# EAGLE library part MK22FN1M0VLQ12 (library Board4You)
IC MCU ARM 1MB FLASH ,LQFP-144
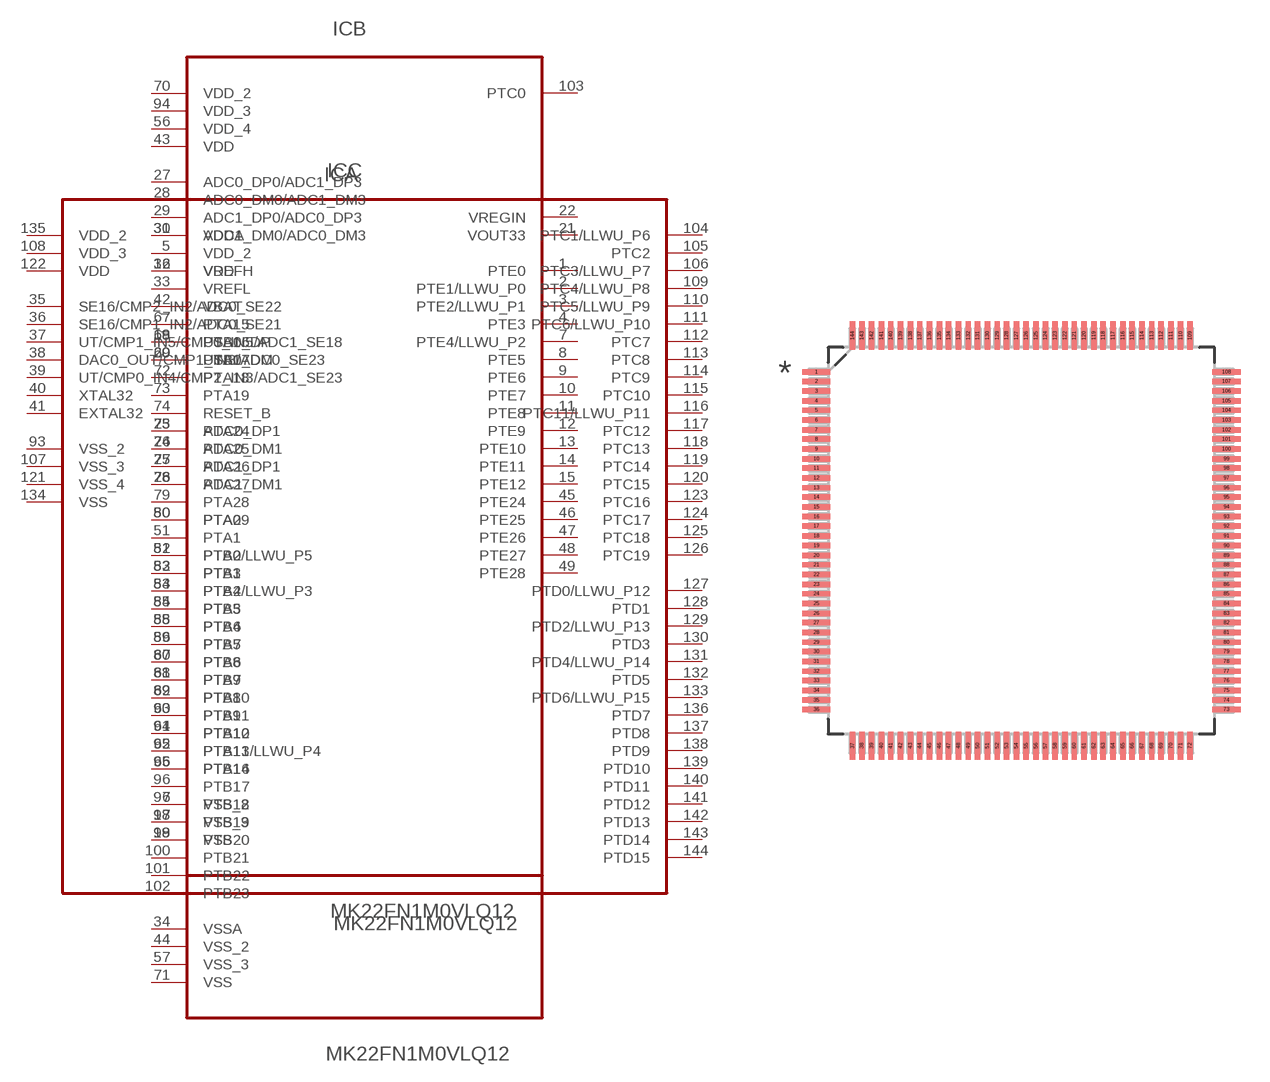
[diagram p5: symbol with the pads of QFP50P2200X2200X160-144N; footprint QFP50P2200X2200X160-144N]

Designator prefix IC; gates A=MK22FN1M0VLQ12_A B=MK22FN1M0VLQ12_B C=MK22FN1M0VLQ12_C

## MK22FN1M0VLQ12 (MPN: MK22FN1M0VLQ12; OC_FARNELL: 2360682; OC_NEWARK: 96W1243; PACKAGE: LQFP-144; SUPPLIER: FREESCALE SEMICONDUCTOR)  [QFP50P2200X2200X160-144N]
1  A:PTE0
2  A:PTE1/LLWU_P0
3  A:PTE2/LLWU_P1
4  A:PTE3
5  A:VDD_2  pwr
6  A:VSS_2  pas
7  A:PTE4/LLWU_P2
8  A:PTE5
9  A:PTE6
10  A:PTE7
11  A:PTE8
12  A:PTE9
13  A:PTE10
14  A:PTE11
15  A:PTE12
16  A:VDD  pwr
17  A:VSS_3  pas
18  A:VSS  pas
19  A:USB0_DP  pas
20  A:USB0_DM  pas
21  A:VOUT33  out
22  A:VREGIN  in
23  A:ADC0_DP1  pas
24  A:ADC0_DM1  pas
25  A:ADC1_DP1  pas
26  A:ADC1_DM1  pas
27  B:ADC0_DP0/ADC1_DP3  pas
28  B:ADC0_DM0/ADC1_DM3  pas
29  B:ADC1_DP0/ADC0_DP3  pas
30  B:ADC1_DM0/ADC0_DM3  pas
31  A:VDDA  pwr
32  B:VREFH  pas
33  B:VREFL  pas
34  B:VSSA  pas
35  C:SE16/CMP2_IN2/ADC0_SE22  pas
36  C:SE16/CMP1_IN2/ADC0_SE21  pas
37  C:UT/CMP1_IN5/CMP0_IN5/ADC1_SE18  pas
38  C:DAC0_OUT/CMP1_IN3/ADC0_SE23  pas
39  C:UT/CMP0_IN4/CMP2_IN3/ADC1_SE23  pas
40  C:XTAL32  pas
41  C:EXTAL32  pas
42  A:VBAT  pwr
43  B:VDD  pwr
44  B:VSS_2  pas
45  A:PTE24
46  A:PTE25
47  A:PTE26
48  A:PTE27
49  A:PTE28
50  A:PTA0
51  A:PTA1
52  A:PTA2
53  A:PTA3
54  A:PTA4/LLWU_P3
55  A:PTA5
56  B:VDD_4  pwr
57  B:VSS_3  pas
58  A:PTA6
59  A:PTA7
60  A:PTA8
61  A:PTA9
62  A:PTA10
63  A:PTA11
64  A:PTA12
65  A:PTA13/LLWU_P4
66  A:PTA14
67  B:PTA15
68  B:PTA16
69  B:PTA17
70  B:VDD_2  pwr
71  B:VSS  pas
72  B:PTA18
73  B:PTA19
74  B:RESET_B
75  B:PTA24
76  B:PTA25
77  B:PTA26
78  B:PTA27
79  B:PTA28
80  B:PTA29
81  B:PTB0/LLWU_P5
82  B:PTB1
83  B:PTB2
84  B:PTB3
85  B:PTB4
86  B:PTB5
87  B:PTB6
88  B:PTB7
89  B:PTB8
90  B:PTB9
91  B:PTB10
92  B:PTB11
93  C:VSS_2  pas
94  B:VDD_3  pwr
95  B:PTB16
96  B:PTB17
97  B:PTB18
98  B:PTB19
99  B:PTB20
100  B:PTB21
101  B:PTB22
102  B:PTB23
103  B:PTC0
104  C:PTC1/LLWU_P6
105  C:PTC2
106  C:PTC3/LLWU_P7
107  C:VSS_3  pas
108  C:VDD_3  pwr
109  C:PTC4/LLWU_P8
110  C:PTC5/LLWU_P9
111  C:PTC6/LLWU_P10
112  C:PTC7
113  C:PTC8
114  C:PTC9
115  C:PTC10
116  C:PTC11/LLWU_P11
117  C:PTC12
118  C:PTC13
119  C:PTC14
120  C:PTC15
121  C:VSS_4  pas
122  C:VDD  pwr
123  C:PTC16
124  C:PTC17
125  C:PTC18
126  C:PTC19
127  C:PTD0/LLWU_P12
128  C:PTD1
129  C:PTD2/LLWU_P13
130  C:PTD3
131  C:PTD4/LLWU_P14
132  C:PTD5
133  C:PTD6/LLWU_P15
134  C:VSS  pas
135  C:VDD_2  pwr
136  C:PTD7
137  C:PTD8
138  C:PTD9
139  C:PTD10
140  C:PTD11
141  C:PTD12
142  C:PTD13
143  C:PTD14
144  C:PTD15

## Footprint QFP50P2200X2200X160-144N (pad centres in mm)
smd 1.473 x 0.279: 1 -10.617,8.738; 2 -10.617,8.255; 3 -10.617,7.747; 4 -10.617,7.239; 5 -10.617,6.756; 6 -10.617,6.248; 7 -10.617,5.74; 8 -10.617,5.258; 9 -10.617,4.75; 10 -10.617,4.242; 11 -10.617,3.759; 12 -10.617,3.251; 13 -10.617,2.743; 14 -10.617,2.261; 15 -10.617,1.753; 16 -10.617,1.245; 17 -10.617,0.762; 18 -10.617,0.254; 19 -10.617,-0.254; 20 -10.617,-0.762; 21 -10.617,-1.245; 22 -10.617,-1.753; 23 -10.617,-2.261; 24 -10.617,-2.743; 25 -10.617,-3.251; 26 -10.617,-3.759; 27 -10.617,-4.242; 28 -10.617,-4.75; 29 -10.617,-5.258; 30 -10.617,-5.74; 31 -10.617,-6.248; 32 -10.617,-6.756; 33 -10.617,-7.239; 34 -10.617,-7.747; 35 -10.617,-8.255; 36 -10.617,-8.738; 73 10.617,-8.738; 74 10.617,-8.255; 75 10.617,-7.747; 76 10.617,-7.239; 77 10.617,-6.756; 78 10.617,-6.248; 79 10.617,-5.74; 80 10.617,-5.258; 81 10.617,-4.75; 82 10.617,-4.242; 83 10.617,-3.759; 84 10.617,-3.251; 85 10.617,-2.743; 86 10.617,-2.261; 87 10.617,-1.753; 88 10.617,-1.245; 89 10.617,-0.762; 90 10.617,-0.254; 91 10.617,0.254; 92 10.617,0.762; 93 10.617,1.245; 94 10.617,1.753; 95 10.617,2.261; 96 10.617,2.743; 97 10.617,3.251; 98 10.617,3.759; 99 10.617,4.242; 100 10.617,4.75; 101 10.617,5.258; 102 10.617,5.74; 103 10.617,6.248; 104 10.617,6.756; 105 10.617,7.239; 106 10.617,7.747; 107 10.617,8.255; 108 10.617,8.738
smd 0.279 x 1.473: 37 -8.738,-10.617; 38 -8.255,-10.617; 39 -7.747,-10.617; 40 -7.239,-10.617; 41 -6.756,-10.617; 42 -6.248,-10.617; 43 -5.74,-10.617; 44 -5.258,-10.617; 45 -4.75,-10.617; 46 -4.242,-10.617; 47 -3.759,-10.617; 48 -3.251,-10.617; 49 -2.743,-10.617; 50 -2.261,-10.617; 51 -1.753,-10.617; 52 -1.245,-10.617; 53 -0.762,-10.617; 54 -0.254,-10.617; 55 0.254,-10.617; 56 0.762,-10.617; 57 1.245,-10.617; 58 1.753,-10.617; 59 2.261,-10.617; 60 2.743,-10.617; 61 3.251,-10.617; 62 3.759,-10.617; 63 4.242,-10.617; 64 4.75,-10.617; 65 5.258,-10.617; 66 5.74,-10.617; 67 6.248,-10.617; 68 6.756,-10.617; 69 7.239,-10.617; 70 7.747,-10.617; 71 8.255,-10.617; 72 8.738,-10.617; 109 8.738,10.617; 110 8.255,10.617; 111 7.747,10.617; 112 7.239,10.617; 113 6.756,10.617; 114 6.248,10.617; 115 5.74,10.617; 116 5.258,10.617; 117 4.75,10.617; 118 4.242,10.617; 119 3.759,10.617; 120 3.251,10.617; 121 2.743,10.617; 122 2.261,10.617; 123 1.753,10.617; 124 1.245,10.617; 125 0.762,10.617; 126 0.254,10.617; 127 -0.254,10.617; 128 -0.762,10.617; 129 -1.245,10.617; 130 -1.753,10.617; 131 -2.261,10.617; 132 -2.743,10.617; 133 -3.251,10.617; 134 -3.759,10.617; 135 -4.242,10.617; 136 -4.75,10.617; 137 -5.258,10.617; 138 -5.74,10.617; 139 -6.248,10.617; 140 -6.756,10.617; 141 -7.239,10.617; 142 -7.747,10.617; 143 -8.255,10.617; 144 -8.738,10.617